# EAGLE library part TM4C1232C3PM (library imu)
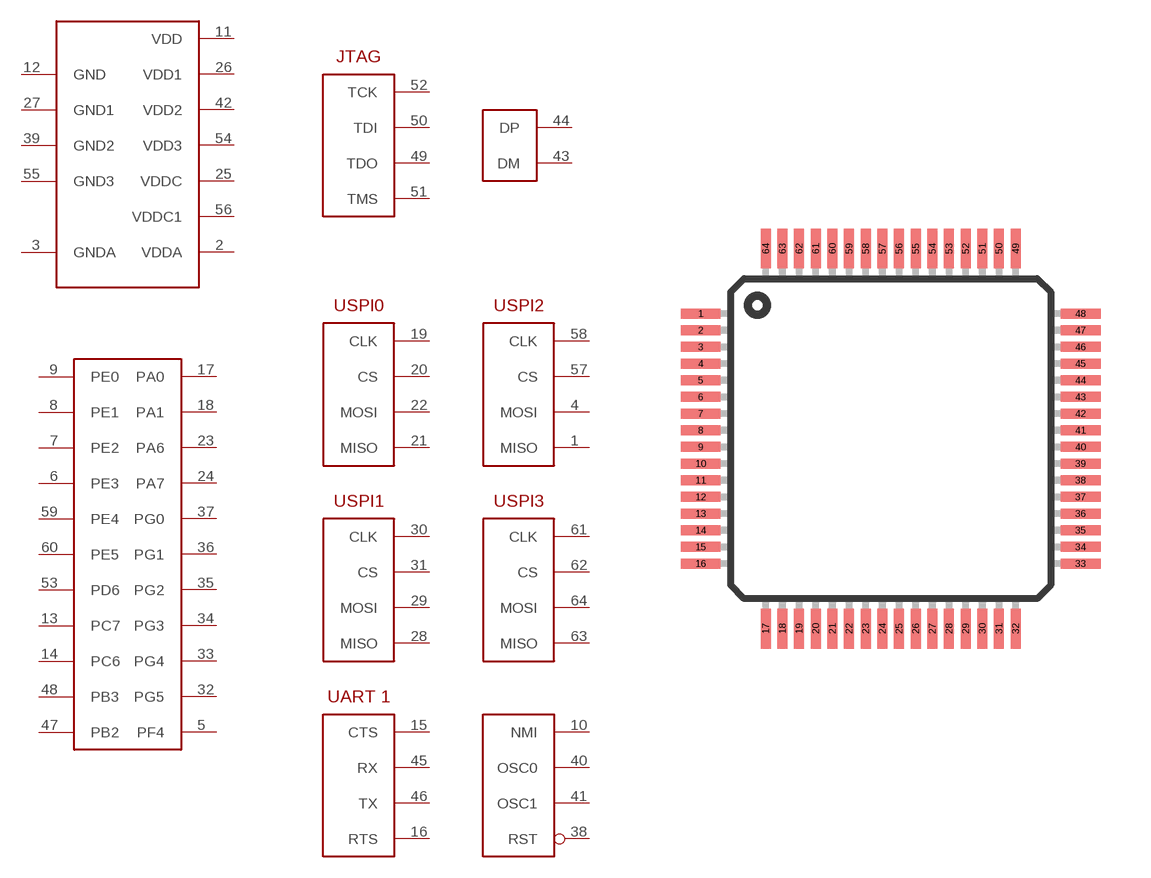
[diagram p4: symbol with the pads of 64-LQFP; footprint 64-LQFP]

Designator prefix -; gates G$1=TM4C1232C3PM G$2=TM4C1232C3PM_CLK JTAG=TM4C1232C3PM_JTAG SPI0=TM4C1232C3PM_SPI SPI1=TM4C1232C3PM_SPI SPI2=TM4C1232C3PM_SPI SPI3=TM4C1232C3PM_SPI UART1=TM4C1232C3PM_UART1 USB=TM4C1232C3PM_USB G$3=TM4C1232C3PM_GPIO

## TM4C1232C3PM  [64-LQFP]
1  SPI2:MISO
2  G$1:VDDA
3  G$1:GNDA
4  SPI2:MOSI
5  G$3:PF4
6  G$3:PE3
7  G$3:PE2
8  G$3:PE1
9  G$3:PE0
10  G$2:NMI
11  G$1:VDD
12  G$1:GND
13  G$3:PC7
14  G$3:PC6
15  UART1:CTS
16  UART1:RTS
17  G$3:PA0
18  G$3:PA1
19  SPI0:CLK
20  SPI0:CS
21  SPI0:MISO
22  SPI0:MOSI
23  G$3:PA6
24  G$3:PA7
25  G$1:VDDC
26  G$1:VDD1
27  G$1:GND1
28  SPI1:MISO
29  SPI1:MOSI
30  SPI1:CLK
31  SPI1:CS
32  G$3:PG5
33  G$3:PG4
34  G$3:PG3
35  G$3:PG2
36  G$3:PG1
37  G$3:PG0
38  G$2:RST
39  G$1:GND2
40  G$2:OSC0
41  G$2:OSC1
42  G$1:VDD2
43  USB:DM
44  USB:DP
45  UART1:RX
46  UART1:TX
47  G$3:PB2
48  G$3:PB3
49  JTAG:TDO
50  JTAG:TDI
51  JTAG:TMS
52  JTAG:TCK
53  G$3:PD6
54  G$1:VDD3
55  G$1:GND3
56  G$1:VDDC1
57  SPI2:CS
58  SPI2:CLK
59  G$3:PE4
60  G$3:PE5
61  SPI3:CLK
62  SPI3:CS
63  SPI3:MISO
64  SPI3:MOSI

## Footprint 64-LQFP (pad centres in mm)
smd 1.2 x 0.3: 1 -5.7,3.75; 2 -5.7,3.25; 3 -5.7,2.75; 4 -5.7,2.25; 5 -5.7,1.75; 6 -5.7,1.25; 7 -5.7,0.75; 8 -5.7,0.25; 9 -5.7,-0.25; 10 -5.7,-0.75; 11 -5.7,-1.25; 12 -5.7,-1.75; 13 -5.7,-2.25; 14 -5.7,-2.75; 15 -5.7,-3.25; 16 -5.7,-3.75; 33 5.7,-3.75; 34 5.7,-3.25; 35 5.7,-2.75; 36 5.7,-2.25; 37 5.7,-1.75; 38 5.7,-1.25; 39 5.7,-0.75; 40 5.7,-0.25; 41 5.7,0.25; 42 5.7,0.75; 43 5.7,1.25; 44 5.7,1.75; 45 5.7,2.25; 46 5.7,2.75; 47 5.7,3.25; 48 5.7,3.75
smd 0.3 x 1.2: 17 -3.75,-5.7; 18 -3.25,-5.7; 19 -2.75,-5.7; 20 -2.25,-5.7; 21 -1.75,-5.7; 22 -1.25,-5.7; 23 -0.75,-5.7; 24 -0.25,-5.7; 25 0.25,-5.7; 26 0.75,-5.7; 27 1.25,-5.7; 28 1.75,-5.7; 29 2.25,-5.7; 30 2.75,-5.7; 31 3.25,-5.7; 32 3.75,-5.7; 49 3.75,5.7; 50 3.25,5.7; 51 2.75,5.7; 52 2.25,5.7; 53 1.75,5.7; 54 1.25,5.7; 55 0.75,5.7; 56 0.25,5.7; 57 -0.25,5.7; 58 -0.75,5.7; 59 -1.25,5.7; 60 -1.75,5.7; 61 -2.25,5.7; 62 -2.75,5.7; 63 -3.25,5.7; 64 -3.75,5.7